# Altium integrated library Linear Technology Charge_Pump.IntLib: 599 symbols (part 15 of 29)
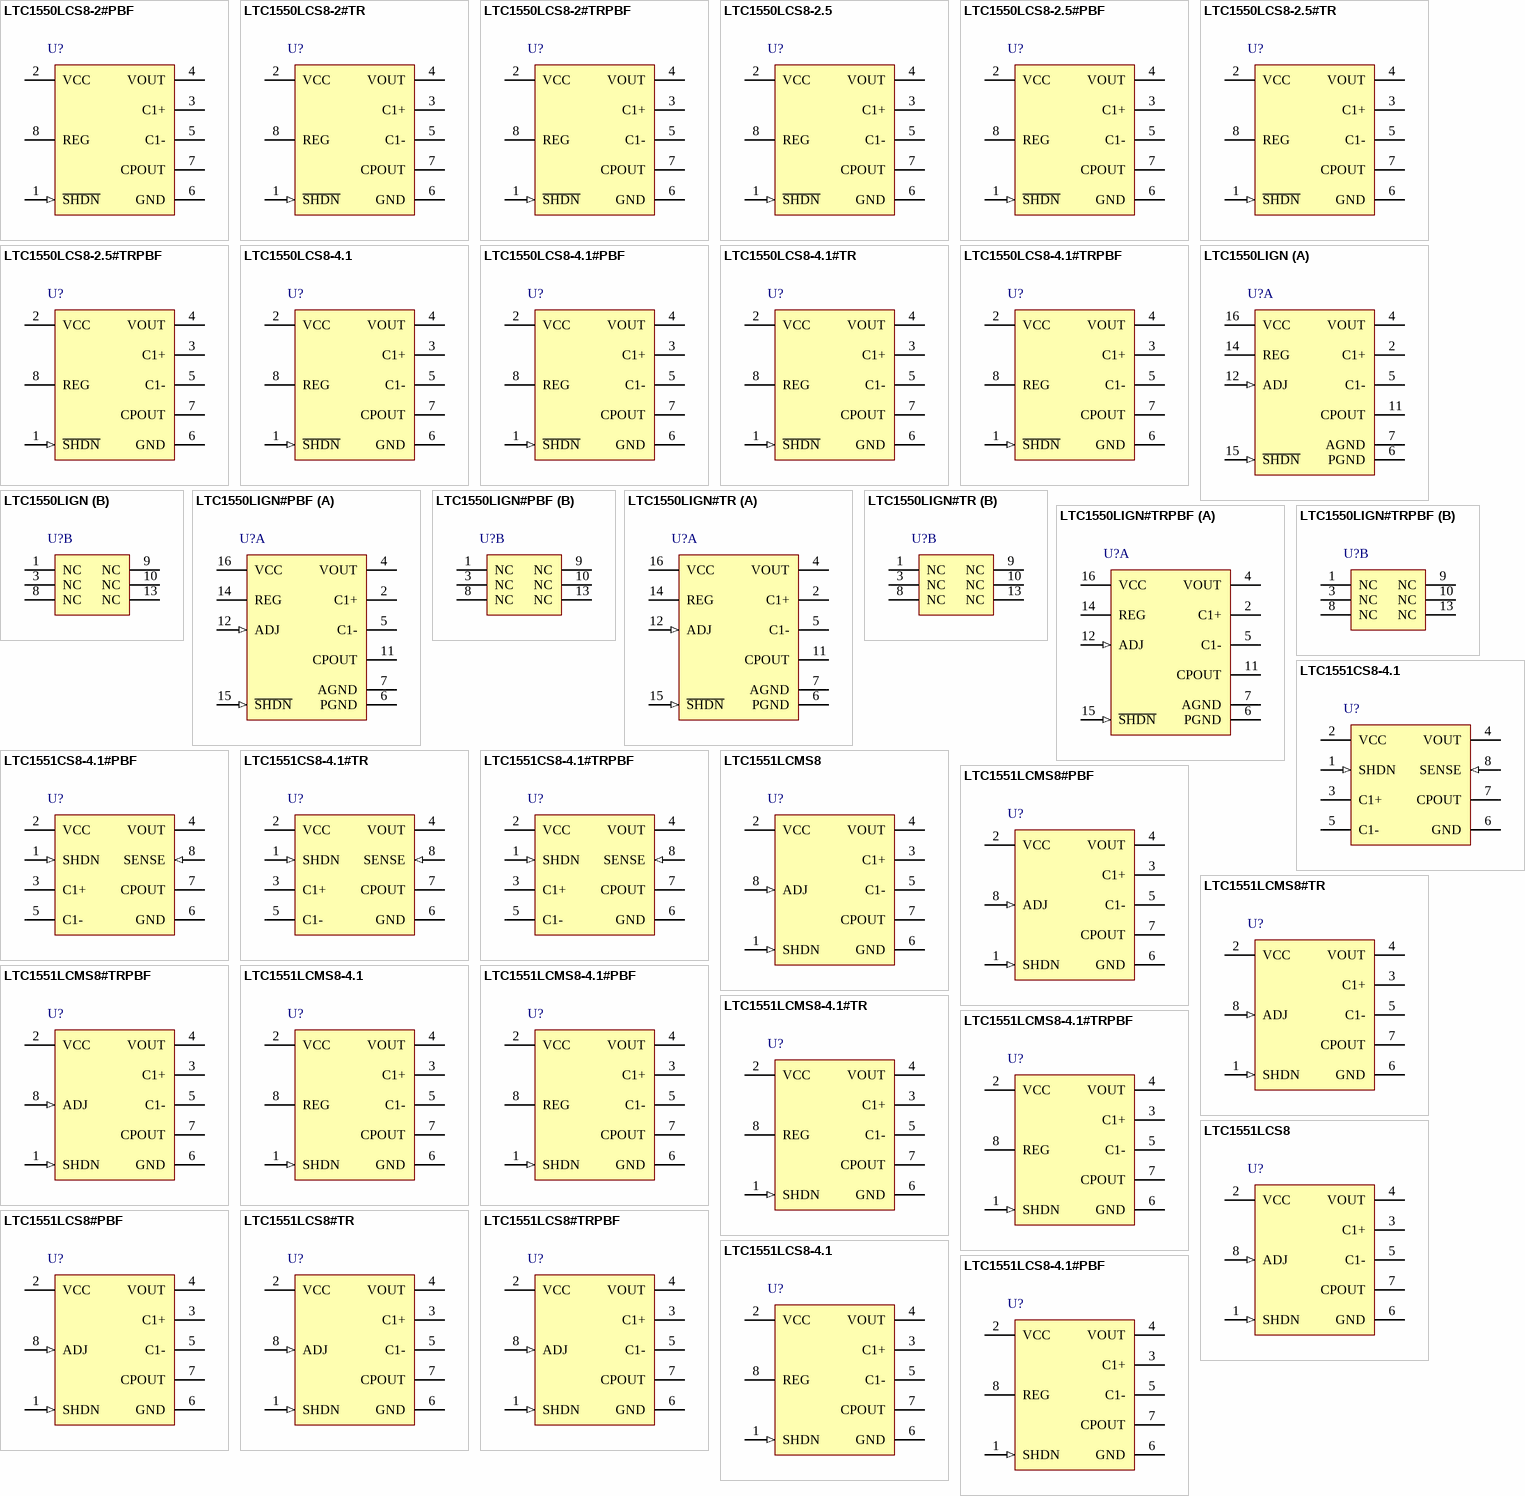
[diagram p30: symbols LTC1550LCS8-2#PBF to LTC1551LCS8-4.1#PBF]

## LTC1551LCMS8-4.1#TRPBF
designator U?
Low Noise, Switched Capacitor Regulated Voltage Inverter, 4.5 to 5.25 V Vin, -4.1 V Vout, 8-pin SOP (MS8-8), 0 to 70 degC, Pb-Free, Tape and Reel; Manufacturer: Linear Technology; PartNumber: LTC1551LCMS8-4.1#TRPBF; Frequency(kHz): 900; Ishutdown(uA): 0.1; Isupply(mA): 3.65; Max Iout(mA): 20; Vin Max(V): 5.25; Vin Min(V): 4.5; Voutput: -4.1V; PackageVersion: Rev. G, 03/2012; PackageReference: MS8-8; PackageDescription: 8-Pin Plastic MSOP, Body 3 x 3 mm, Pitch 0.65 mm; Supplier 1: Digi-Key; Supplier Part Number 1: LTC1551LCMS8-4.1#TRPBF-ND; Packing: Tape and Reel; RoHS: TRUE; Mounting Technology: Surface Mount; ComponentLink1Description: Manufacturer URL; ComponentLink1URL: http://www.linear.com/; ComponentLink2Description: Datasheet; ComponentLink2URL: http://cds.linear.com/docs/en/datasheet/15501lf.pdf; ComponentLink3Description: Package Specification; ComponentLink3URL: http://cds.linear.com/docs/en/packaging/05081660_G_MS8.pdf
footprint LT-MS8-8_N (SOP, 8-Leads, Body 3.1x3.1mm, Pitch 0.65mm, IPC Medium Density)
footprint LT-MS8-8_L (SOP, 8-Leads, Body 3.1x3.1mm, Pitch 0.65mm, IPC High Density)
footprint LT-MS8-8_M (SOP, 8-Leads, Body 3.1x3.1mm, Pitch 0.65mm, IPC Low Density)
pins: 1 SHDN (in) "Shutdown (TTL Compatible). This pin is active low (S\H\D\N\) for the LTC1550L and active high (SHDN) for the LTC1551L. When this pin is at VCC (GND for LTC1551L), the LTC1550L operates normally. When S\H\D\N\ is pulled low (See Datasheet)", 2 VCC (power) "Power Supply. VCC requires an input voltage between 2.7V and 5.25V. Certain combinations of output voltage and output load current may place additional restrictions on the required input voltage. Consult the Electrical (See Datasheet)", 3 C1+ "C1 Positive Input. Connect a 0.1uF capacitor between C1+ and C1-.", 4 VOUT (power) "Negative Voltage Output. This pin must be bypassed with a 4.7uF or larger capacitor to ensure regulator loop stability. LTC recommends at least 10uFto achieve the specified output ripple. The output capacitor should be a (See Datasheet)", 5 C1- "C1 Negative Input. Connect a 0.1uF capacitor from C1+ to C1-.", 6 GND (power) "Ground. Connect to a low impedance ground. A ground plane will help minimize regulation errors.", 7 CPOUT "Negative Charge Pump Output. This pin requires a 0.1uF storage capacitor to ground. In order to achieve ripple on the output voltage of less than 1mV, the ground connection for the CPOUT capacitor must tie directly to the (See Datasheet)", 8 REG (oc) "This is an open-drain output that pulls low when the output voltage is within 5% of the set value. It will sink 4mA to ground with a 5V supply. The external circuitry must provide a pull-up or REG will not swing high. The (See Datasheet)"

## LTC1551LCS8
designator U?
Low Noise, Switched Capacitor Regulated Voltage Inverter, 2.7 to 5.25 V Vin, Adjustable Vout, 8-pin SOIC (S8-8), 0 to 70 degC; Manufacturer: Linear Technology; PartNumber: LTC1551LCS8; Frequency(kHz): 900; Ishutdown(uA): 0.1; Isupply(mA): 3.65; Max Iout(mA): 20; Vin Max(V): 5.25; Vin Min(V): 2.7; Voutput: Adj; PackageVersion: Rev. G, 03/2012; PackageReference: S8-8; PackageDescription: 8-Pin Plastic Small Outline (Narrow .150 Inch), Body 4.9 x 3.9 mm, Pitch 1.27 mm; Supplier 1: Digi-Key; Supplier Part Number 1: LTC1551LCS8-ND; RoHS: FALSE; Mounting Technology: Surface Mount; ComponentLink1Description: Manufacturer URL; ComponentLink1URL: http://www.linear.com/; ComponentLink2Description: Datasheet; ComponentLink2URL: http://cds.linear.com/docs/en/datasheet/15501lf.pdf; ComponentLink3Description: Package Specification; ComponentLink3URL: http://cds.linear.com/docs/en/packaging/05081610_G_SO8.pdf
footprint LT-S8-8_N (SOIC, 8-Leads, Body 5x4mm, Pitch 1.27mm, IPC Medium Density)
footprint LT-S8-8_L (SOIC, 8-Leads, Body 5x4mm, Pitch 1.27mm, IPC High Density)
footprint LT-S8-8_M (SOIC, 8-Leads, Body 5x4mm, Pitch 1.27mm, IPC Low Density)
pins: 1 SHDN (in) "Shutdown (TTL Compatible). This pin is active low (S\H\D\N\) for the LTC1550L and active high (SHDN) for the LTC1551L. When this pin is at VCC (GND for LTC1551L), the LTC1550L operates normally. When S\H\D\N\ is pulled low (See Datasheet)", 2 VCC (power) "Power Supply. VCC requires an input voltage between 2.7V and 5.25V. Certain combinations of output voltage and output load current may place additional restrictions on the required input voltage. Consult the Electrical (See Datasheet)", 3 C1+ "C1 Positive Input. Connect a 0.1uF capacitor between C1+ and C1-.", 4 VOUT (power) "Negative Voltage Output. This pin must be bypassed with a 4.7uF or larger capacitor to ensure regulator loop stability. LTC recommends at least 10uFto achieve the specified output ripple. The output capacitor should be a (See Datasheet)", 5 C1- "C1 Negative Input. Connect a 0.1uF capacitor from C1+ to C1-.", 6 GND (power) "Ground. Connect to a low impedance ground. A ground plane will help minimize regulation errors.", 7 CPOUT "Negative Charge Pump Output. This pin requires a 0.1uF storage capacitor to ground. In order to achieve ripple on the output voltage of less than 1mV, the ground connection for the CPOUT capacitor must tie directly to the (See Datasheet)", 8 ADJ (in) "This is the feedback point for the external resistor divider string. Connect a divider string from GND to VOUT with the divided tap connected to ADJ. Note that the resistor string needs to be connected “upside-down” f(See Datasheet)"

## LTC1551LCS8#PBF
designator U?
Low Noise, Switched Capacitor Regulated Voltage Inverter, 2.7 to 5.25 V Vin, Adjustable Vout, 8-pin SOIC (S8-8), 0 to 70 degC, Pb-Free; Manufacturer: Linear Technology; PartNumber: LTC1551LCS8#PBF; Frequency(kHz): 900; Ishutdown(uA): 0.1; Isupply(mA): 3.65; Max Iout(mA): 20; Vin Max(V): 5.25; Vin Min(V): 2.7; Voutput: Adj; PackageVersion: Rev. G, 03/2012; PackageReference: S8-8; PackageDescription: 8-Pin Plastic Small Outline (Narrow .150 Inch), Body 4.9 x 3.9 mm, Pitch 1.27 mm; Supplier 1: Digi-Key; Supplier Part Number 1: LTC1551LCS8#PBF-ND; RoHS: TRUE; Mounting Technology: Surface Mount; ComponentLink1Description: Manufacturer URL; ComponentLink1URL: http://www.linear.com/; ComponentLink2Description: Datasheet; ComponentLink2URL: http://cds.linear.com/docs/en/datasheet/15501lf.pdf; ComponentLink3Description: Package Specification; ComponentLink3URL: http://cds.linear.com/docs/en/packaging/05081610_G_SO8.pdf
footprint LT-S8-8_N (SOIC, 8-Leads, Body 5x4mm, Pitch 1.27mm, IPC Medium Density)
footprint LT-S8-8_L (SOIC, 8-Leads, Body 5x4mm, Pitch 1.27mm, IPC High Density)
footprint LT-S8-8_M (SOIC, 8-Leads, Body 5x4mm, Pitch 1.27mm, IPC Low Density)
pins: 1 SHDN (in) "Shutdown (TTL Compatible). This pin is active low (S\H\D\N\) for the LTC1550L and active high (SHDN) for the LTC1551L. When this pin is at VCC (GND for LTC1551L), the LTC1550L operates normally. When S\H\D\N\ is pulled low (See Datasheet)", 2 VCC (power) "Power Supply. VCC requires an input voltage between 2.7V and 5.25V. Certain combinations of output voltage and output load current may place additional restrictions on the required input voltage. Consult the Electrical (See Datasheet)", 3 C1+ "C1 Positive Input. Connect a 0.1uF capacitor between C1+ and C1-.", 4 VOUT (power) "Negative Voltage Output. This pin must be bypassed with a 4.7uF or larger capacitor to ensure regulator loop stability. LTC recommends at least 10uFto achieve the specified output ripple. The output capacitor should be a (See Datasheet)", 5 C1- "C1 Negative Input. Connect a 0.1uF capacitor from C1+ to C1-.", 6 GND (power) "Ground. Connect to a low impedance ground. A ground plane will help minimize regulation errors.", 7 CPOUT "Negative Charge Pump Output. This pin requires a 0.1uF storage capacitor to ground. In order to achieve ripple on the output voltage of less than 1mV, the ground connection for the CPOUT capacitor must tie directly to the (See Datasheet)", 8 ADJ (in) "This is the feedback point for the external resistor divider string. Connect a divider string from GND to VOUT with the divided tap connected to ADJ. Note that the resistor string needs to be connected “upside-down” f(See Datasheet)"

## LTC1551LCS8#TR
designator U?
Low Noise, Switched Capacitor Regulated Voltage Inverter, 2.7 to 5.25 V Vin, Adjustable Vout, 8-pin SOIC (S8-8), 0 to 70 degC, Tape and Reel; Manufacturer: Linear Technology; PartNumber: LTC1551LCS8#TR; Frequency(kHz): 900; Ishutdown(uA): 0.1; Isupply(mA): 3.65; Max Iout(mA): 20; Vin Max(V): 5.25; Vin Min(V): 2.7; Voutput: Adj; PackageVersion: Rev. G, 03/2012; PackageReference: S8-8; PackageDescription: 8-Pin Plastic Small Outline (Narrow .150 Inch), Body 4.9 x 3.9 mm, Pitch 1.27 mm; Supplier 1: Digi-Key; Supplier Part Number 1: LTC1551LCS8#TR-ND; Packing: Tape and Reel; RoHS: FALSE; Mounting Technology: Surface Mount; ComponentLink1Description: Manufacturer URL; ComponentLink1URL: http://www.linear.com/; ComponentLink2Description: Datasheet; ComponentLink2URL: http://cds.linear.com/docs/en/datasheet/15501lf.pdf; ComponentLink3Description: Package Specification; ComponentLink3URL: http://cds.linear.com/docs/en/packaging/05081610_G_SO8.pdf
footprint LT-S8-8_N (SOIC, 8-Leads, Body 5x4mm, Pitch 1.27mm, IPC Medium Density)
footprint LT-S8-8_L (SOIC, 8-Leads, Body 5x4mm, Pitch 1.27mm, IPC High Density)
footprint LT-S8-8_M (SOIC, 8-Leads, Body 5x4mm, Pitch 1.27mm, IPC Low Density)
pins: 1 SHDN (in) "Shutdown (TTL Compatible). This pin is active low (S\H\D\N\) for the LTC1550L and active high (SHDN) for the LTC1551L. When this pin is at VCC (GND for LTC1551L), the LTC1550L operates normally. When S\H\D\N\ is pulled low (See Datasheet)", 2 VCC (power) "Power Supply. VCC requires an input voltage between 2.7V and 5.25V. Certain combinations of output voltage and output load current may place additional restrictions on the required input voltage. Consult the Electrical (See Datasheet)", 3 C1+ "C1 Positive Input. Connect a 0.1uF capacitor between C1+ and C1-.", 4 VOUT (power) "Negative Voltage Output. This pin must be bypassed with a 4.7uF or larger capacitor to ensure regulator loop stability. LTC recommends at least 10uFto achieve the specified output ripple. The output capacitor should be a (See Datasheet)", 5 C1- "C1 Negative Input. Connect a 0.1uF capacitor from C1+ to C1-.", 6 GND (power) "Ground. Connect to a low impedance ground. A ground plane will help minimize regulation errors.", 7 CPOUT "Negative Charge Pump Output. This pin requires a 0.1uF storage capacitor to ground. In order to achieve ripple on the output voltage of less than 1mV, the ground connection for the CPOUT capacitor must tie directly to the (See Datasheet)", 8 ADJ (in) "This is the feedback point for the external resistor divider string. Connect a divider string from GND to VOUT with the divided tap connected to ADJ. Note that the resistor string needs to be connected “upside-down” f(See Datasheet)"

## LTC1551LCS8#TRPBF
designator U?
Low Noise, Switched Capacitor Regulated Voltage Inverter, 2.7 to 5.25 V Vin, Adjustable Vout, 8-pin SOIC (S8-8), 0 to 70 degC, Pb-Free, Tape and Reel; Manufacturer: Linear Technology; PartNumber: LTC1551LCS8#TRPBF; Frequency(kHz): 900; Ishutdown(uA): 0.1; Isupply(mA): 3.65; Max Iout(mA): 20; Vin Max(V): 5.25; Vin Min(V): 2.7; Voutput: Adj; PackageVersion: Rev. G, 03/2012; PackageReference: S8-8; PackageDescription: 8-Pin Plastic Small Outline (Narrow .150 Inch), Body 4.9 x 3.9 mm, Pitch 1.27 mm; Supplier 1: Digi-Key; Supplier Part Number 1: LTC1551LCS8#TRPBF-ND; Packing: Tape and Reel; RoHS: TRUE; Mounting Technology: Surface Mount; ComponentLink1Description: Manufacturer URL; ComponentLink1URL: http://www.linear.com/; ComponentLink2Description: Datasheet; ComponentLink2URL: http://cds.linear.com/docs/en/datasheet/15501lf.pdf; ComponentLink3Description: Package Specification; ComponentLink3URL: http://cds.linear.com/docs/en/packaging/05081610_G_SO8.pdf
footprint LT-S8-8_N (SOIC, 8-Leads, Body 5x4mm, Pitch 1.27mm, IPC Medium Density)
footprint LT-S8-8_L (SOIC, 8-Leads, Body 5x4mm, Pitch 1.27mm, IPC High Density)
footprint LT-S8-8_M (SOIC, 8-Leads, Body 5x4mm, Pitch 1.27mm, IPC Low Density)
pins: 1 SHDN (in) "Shutdown (TTL Compatible). This pin is active low (S\H\D\N\) for the LTC1550L and active high (SHDN) for the LTC1551L. When this pin is at VCC (GND for LTC1551L), the LTC1550L operates normally. When S\H\D\N\ is pulled low (See Datasheet)", 2 VCC (power) "Power Supply. VCC requires an input voltage between 2.7V and 5.25V. Certain combinations of output voltage and output load current may place additional restrictions on the required input voltage. Consult the Electrical (See Datasheet)", 3 C1+ "C1 Positive Input. Connect a 0.1uF capacitor between C1+ and C1-.", 4 VOUT (power) "Negative Voltage Output. This pin must be bypassed with a 4.7uF or larger capacitor to ensure regulator loop stability. LTC recommends at least 10uFto achieve the specified output ripple. The output capacitor should be a (See Datasheet)", 5 C1- "C1 Negative Input. Connect a 0.1uF capacitor from C1+ to C1-.", 6 GND (power) "Ground. Connect to a low impedance ground. A ground plane will help minimize regulation errors.", 7 CPOUT "Negative Charge Pump Output. This pin requires a 0.1uF storage capacitor to ground. In order to achieve ripple on the output voltage of less than 1mV, the ground connection for the CPOUT capacitor must tie directly to the (See Datasheet)", 8 ADJ (in) "This is the feedback point for the external resistor divider string. Connect a divider string from GND to VOUT with the divided tap connected to ADJ. Note that the resistor string needs to be connected “upside-down” f(See Datasheet)"

## LTC1551LCS8-4.1
designator U?
Low Noise, Switched Capacitor Regulated Voltage Inverter, 4.5 to 5.25 V Vin, -4.1 V Vout, 8-pin SOIC (S8-8), 0 to 70 degC; Manufacturer: Linear Technology; PartNumber: LTC1551LCS8-4.1; Frequency(kHz): 900; Ishutdown(uA): 0.1; Isupply(mA): 3.65; Max Iout(mA): 20; Vin Max(V): 5.25; Vin Min(V): 4.5; Voutput: -4.1V; PackageVersion: Rev. G, 03/2012; PackageReference: S8-8; PackageDescription: 8-Pin Plastic Small Outline (Narrow .150 Inch), Body 4.9 x 3.9 mm, Pitch 1.27 mm; Supplier 1: Digi-Key; Supplier Part Number 1: LTC1551LCS8-4.1-ND; RoHS: FALSE; Mounting Technology: Surface Mount; ComponentLink1Description: Manufacturer URL; ComponentLink1URL: http://www.linear.com/; ComponentLink2Description: Datasheet; ComponentLink2URL: http://cds.linear.com/docs/en/datasheet/15501lf.pdf; ComponentLink3Description: Package Specification; ComponentLink3URL: http://cds.linear.com/docs/en/packaging/05081610_G_SO8.pdf
footprint LT-S8-8_N (SOIC, 8-Leads, Body 5x4mm, Pitch 1.27mm, IPC Medium Density)
footprint LT-S8-8_L (SOIC, 8-Leads, Body 5x4mm, Pitch 1.27mm, IPC High Density)
footprint LT-S8-8_M (SOIC, 8-Leads, Body 5x4mm, Pitch 1.27mm, IPC Low Density)
pins: 1 SHDN (in) "Shutdown (TTL Compatible). This pin is active low (S\H\D\N\) for the LTC1550L and active high (SHDN) for the LTC1551L. When this pin is at VCC (GND for LTC1551L), the LTC1550L operates normally. When S\H\D\N\ is pulled low (See Datasheet)", 2 VCC (power) "Power Supply. VCC requires an input voltage between 2.7V and 5.25V. Certain combinations of output voltage and output load current may place additional restrictions on the required input voltage. Consult the Electrical (See Datasheet)", 3 C1+ "C1 Positive Input. Connect a 0.1uF capacitor between C1+ and C1-.", 4 VOUT (power) "Negative Voltage Output. This pin must be bypassed with a 4.7uF or larger capacitor to ensure regulator loop stability. LTC recommends at least 10uFto achieve the specified output ripple. The output capacitor should be a (See Datasheet)", 5 C1- "C1 Negative Input. Connect a 0.1uF capacitor from C1+ to C1-.", 6 GND (power) "Ground. Connect to a low impedance ground. A ground plane will help minimize regulation errors.", 7 CPOUT "Negative Charge Pump Output. This pin requires a 0.1uF storage capacitor to ground. In order to achieve ripple on the output voltage of less than 1mV, the ground connection for the CPOUT capacitor must tie directly to the (See Datasheet)", 8 REG (oc) "This is an open-drain output that pulls low when the output voltage is within 5% of the set value. It will sink 4mA to ground with a 5V supply. The external circuitry must provide a pull-up or REG will not swing high. The (See Datasheet)"

## LTC1551LCS8-4.1#PBF
designator U?
Low Noise, Switched Capacitor Regulated Voltage Inverter, 4.5 to 5.25 V Vin, -4.1 V Vout, 8-pin SOIC (S8-8), 0 to 70 degC, Pb-Free; Manufacturer: Linear Technology; PartNumber: LTC1551LCS8-4.1#PBF; Frequency(kHz): 900; Ishutdown(uA): 0.1; Isupply(mA): 3.65; Max Iout(mA): 20; Vin Max(V): 5.25; Vin Min(V): 4.5; Voutput: -4.1V; PackageVersion: Rev. G, 03/2012; PackageReference: S8-8; PackageDescription: 8-Pin Plastic Small Outline (Narrow .150 Inch), Body 4.9 x 3.9 mm, Pitch 1.27 mm; Supplier 1: Digi-Key; Supplier Part Number 1: LTC1551LCS8-4.1#PBF-ND; RoHS: TRUE; Mounting Technology: Surface Mount; ComponentLink1Description: Manufacturer URL; ComponentLink1URL: http://www.linear.com/; ComponentLink2Description: Datasheet; ComponentLink2URL: http://cds.linear.com/docs/en/datasheet/15501lf.pdf; ComponentLink3Description: Package Specification; ComponentLink3URL: http://cds.linear.com/docs/en/packaging/05081610_G_SO8.pdf
footprint LT-S8-8_N (SOIC, 8-Leads, Body 5x4mm, Pitch 1.27mm, IPC Medium Density)
footprint LT-S8-8_L (SOIC, 8-Leads, Body 5x4mm, Pitch 1.27mm, IPC High Density)
footprint LT-S8-8_M (SOIC, 8-Leads, Body 5x4mm, Pitch 1.27mm, IPC Low Density)
pins: 1 SHDN (in) "Shutdown (TTL Compatible). This pin is active low (S\H\D\N\) for the LTC1550L and active high (SHDN) for the LTC1551L. When this pin is at VCC (GND for LTC1551L), the LTC1550L operates normally. When S\H\D\N\ is pulled low (See Datasheet)", 2 VCC (power) "Power Supply. VCC requires an input voltage between 2.7V and 5.25V. Certain combinations of output voltage and output load current may place additional restrictions on the required input voltage. Consult the Electrical (See Datasheet)", 3 C1+ "C1 Positive Input. Connect a 0.1uF capacitor between C1+ and C1-.", 4 VOUT (power) "Negative Voltage Output. This pin must be bypassed with a 4.7uF or larger capacitor to ensure regulator loop stability. LTC recommends at least 10uFto achieve the specified output ripple. The output capacitor should be a (See Datasheet)", 5 C1- "C1 Negative Input. Connect a 0.1uF capacitor from C1+ to C1-.", 6 GND (power) "Ground. Connect to a low impedance ground. A ground plane will help minimize regulation errors.", 7 CPOUT "Negative Charge Pump Output. This pin requires a 0.1uF storage capacitor to ground. In order to achieve ripple on the output voltage of less than 1mV, the ground connection for the CPOUT capacitor must tie directly to the (See Datasheet)", 8 REG (oc) "This is an open-drain output that pulls low when the output voltage is within 5% of the set value. It will sink 4mA to ground with a 5V supply. The external circuitry must provide a pull-up or REG will not swing high. The (See Datasheet)"

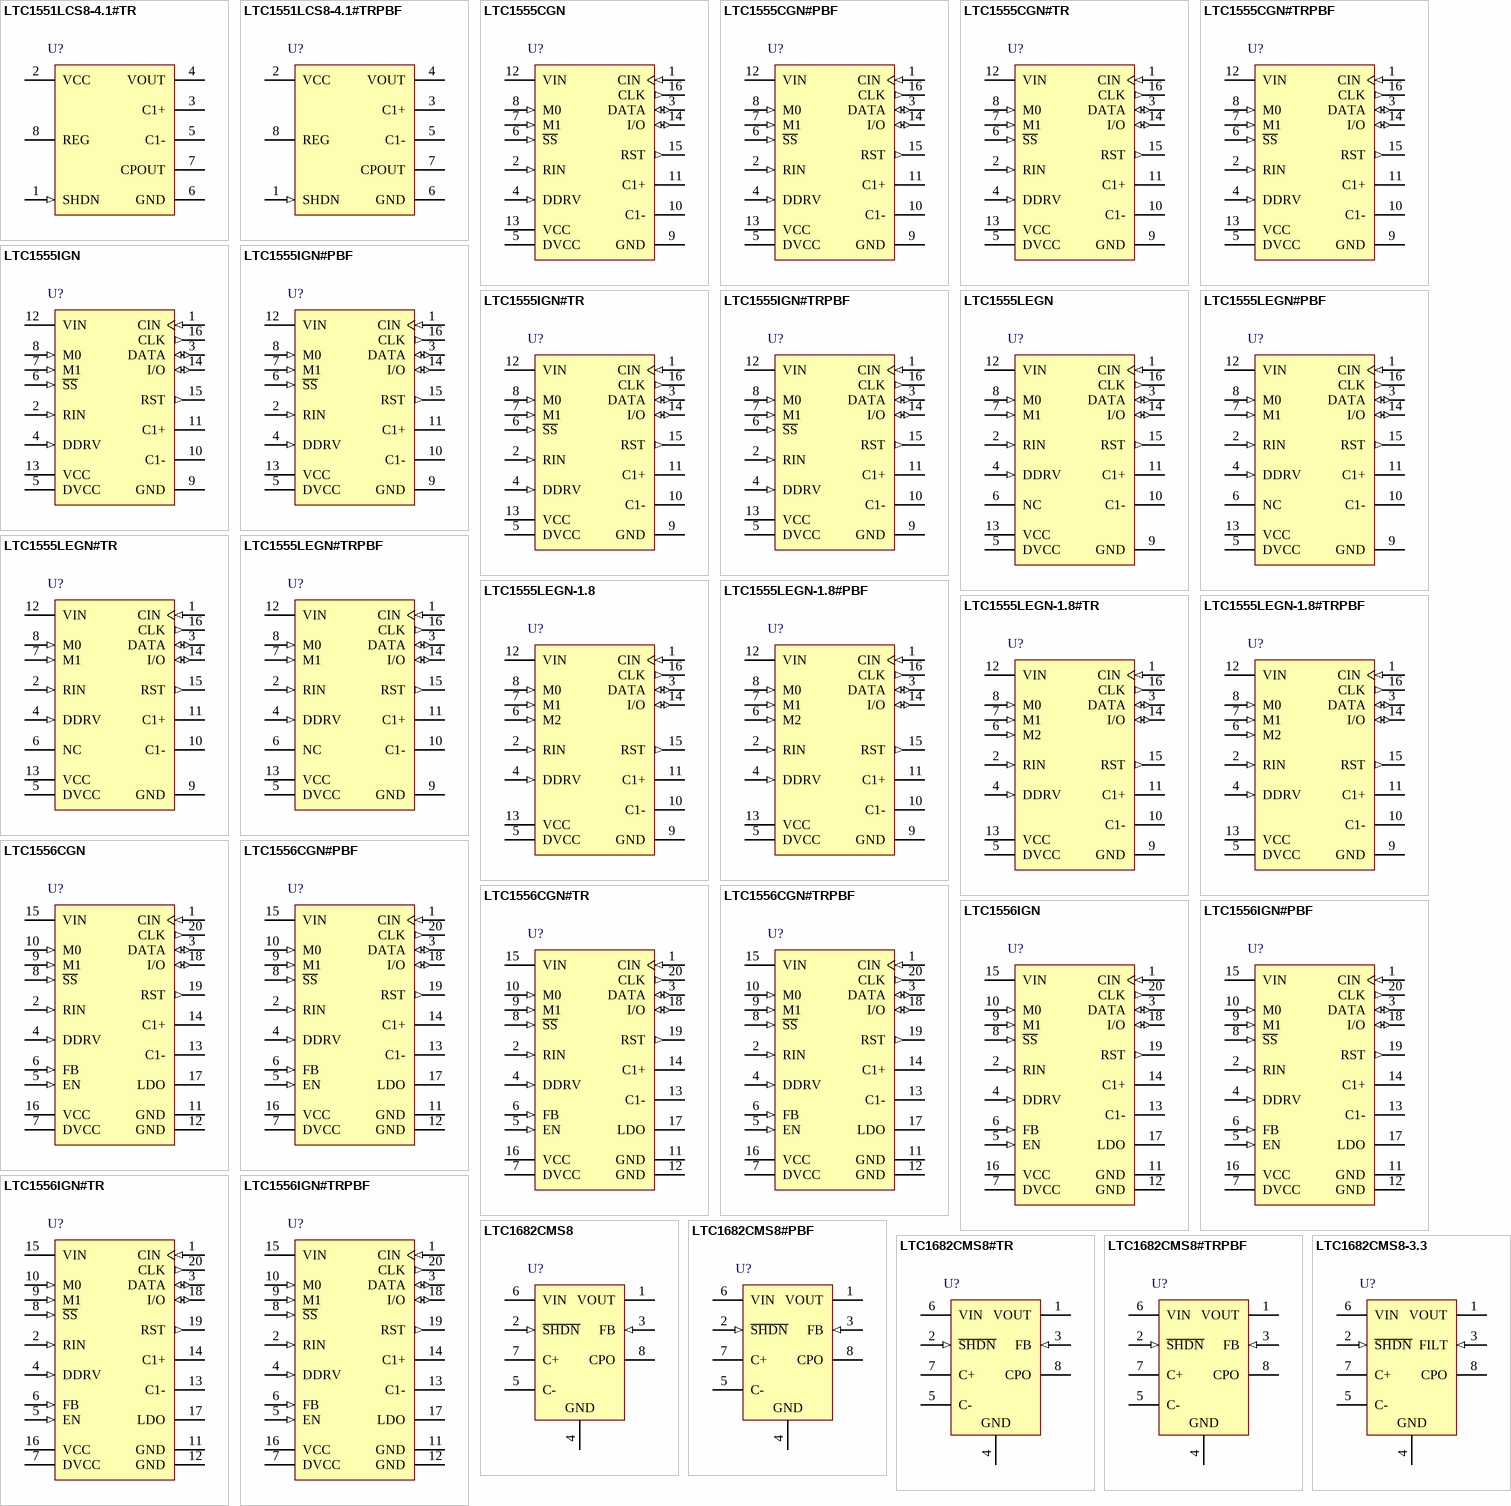
[diagram p9: symbols LTC1551LCS8-4.1#TR to LTC1682CMS8-3.3]

## LTC1551LCS8-4.1#TR
designator U?
Low Noise, Switched Capacitor Regulated Voltage Inverter, 4.5 to 5.25 V Vin, -4.1 V Vout, 8-pin SOIC (S8-8), 0 to 70 degC, Tape and Reel; Manufacturer: Linear Technology; PartNumber: LTC1551LCS8-4.1#TR; Frequency(kHz): 900; Ishutdown(uA): 0.1; Isupply(mA): 3.65; Max Iout(mA): 20; Vin Max(V): 5.25; Vin Min(V): 4.5; Voutput: -4.1V; PackageVersion: Rev. G, 03/2012; PackageReference: S8-8; PackageDescription: 8-Pin Plastic Small Outline (Narrow .150 Inch), Body 4.9 x 3.9 mm, Pitch 1.27 mm; Supplier 1: Digi-Key; Supplier Part Number 1: LTC1551LCS8-4.1TR-ND; Packing: Tape and Reel; RoHS: FALSE; Mounting Technology: Surface Mount; ComponentLink1Description: Manufacturer URL; ComponentLink1URL: http://www.linear.com/; ComponentLink2Description: Datasheet; ComponentLink2URL: http://cds.linear.com/docs/en/datasheet/15501lf.pdf; ComponentLink3Description: Package Specification; ComponentLink3URL: http://cds.linear.com/docs/en/packaging/05081610_G_SO8.pdf
footprint LT-S8-8_N (SOIC, 8-Leads, Body 5x4mm, Pitch 1.27mm, IPC Medium Density)
footprint LT-S8-8_L (SOIC, 8-Leads, Body 5x4mm, Pitch 1.27mm, IPC High Density)
footprint LT-S8-8_M (SOIC, 8-Leads, Body 5x4mm, Pitch 1.27mm, IPC Low Density)
pins: 1 SHDN (in) "Shutdown (TTL Compatible). This pin is active low (S\H\D\N\) for the LTC1550L and active high (SHDN) for the LTC1551L. When this pin is at VCC (GND for LTC1551L), the LTC1550L operates normally. When S\H\D\N\ is pulled low (See Datasheet)", 2 VCC (power) "Power Supply. VCC requires an input voltage between 2.7V and 5.25V. Certain combinations of output voltage and output load current may place additional restrictions on the required input voltage. Consult the Electrical (See Datasheet)", 3 C1+ "C1 Positive Input. Connect a 0.1uF capacitor between C1+ and C1-.", 4 VOUT (power) "Negative Voltage Output. This pin must be bypassed with a 4.7uF or larger capacitor to ensure regulator loop stability. LTC recommends at least 10uFto achieve the specified output ripple. The output capacitor should be a (See Datasheet)", 5 C1- "C1 Negative Input. Connect a 0.1uF capacitor from C1+ to C1-.", 6 GND (power) "Ground. Connect to a low impedance ground. A ground plane will help minimize regulation errors.", 7 CPOUT "Negative Charge Pump Output. This pin requires a 0.1uF storage capacitor to ground. In order to achieve ripple on the output voltage of less than 1mV, the ground connection for the CPOUT capacitor must tie directly to the (See Datasheet)", 8 REG (oc) "This is an open-drain output that pulls low when the output voltage is within 5% of the set value. It will sink 4mA to ground with a 5V supply. The external circuitry must provide a pull-up or REG will not swing high. The (See Datasheet)"

## LTC1551LCS8-4.1#TRPBF
designator U?
Low Noise, Switched Capacitor Regulated Voltage Inverter, 4.5 to 5.25 V Vin, -4.1 V Vout, 8-pin SOIC (S8-8), 0 to 70 degC, Pb-Free, Tape and Reel; Manufacturer: Linear Technology; PartNumber: LTC1551LCS8-4.1#TRPBF; Frequency(kHz): 900; Ishutdown(uA): 0.1; Isupply(mA): 3.65; Max Iout(mA): 20; Vin Max(V): 5.25; Vin Min(V): 4.5; Voutput: -4.1V; PackageVersion: Rev. G, 03/2012; PackageReference: S8-8; PackageDescription: 8-Pin Plastic Small Outline (Narrow .150 Inch), Body 4.9 x 3.9 mm, Pitch 1.27 mm; Supplier 1: Digi-Key; Supplier Part Number 1: LTC1551LCS8-4.1#TRPBF-ND; Packing: Tape and Reel; RoHS: TRUE; Mounting Technology: Surface Mount; ComponentLink1Description: Manufacturer URL; ComponentLink1URL: http://www.linear.com/; ComponentLink2Description: Datasheet; ComponentLink2URL: http://cds.linear.com/docs/en/datasheet/15501lf.pdf; ComponentLink3Description: Package Specification; ComponentLink3URL: http://cds.linear.com/docs/en/packaging/05081610_G_SO8.pdf
footprint LT-S8-8_N (SOIC, 8-Leads, Body 5x4mm, Pitch 1.27mm, IPC Medium Density)
footprint LT-S8-8_L (SOIC, 8-Leads, Body 5x4mm, Pitch 1.27mm, IPC High Density)
footprint LT-S8-8_M (SOIC, 8-Leads, Body 5x4mm, Pitch 1.27mm, IPC Low Density)
pins: 1 SHDN (in) "Shutdown (TTL Compatible). This pin is active low (S\H\D\N\) for the LTC1550L and active high (SHDN) for the LTC1551L. When this pin is at VCC (GND for LTC1551L), the LTC1550L operates normally. When S\H\D\N\ is pulled low (See Datasheet)", 2 VCC (power) "Power Supply. VCC requires an input voltage between 2.7V and 5.25V. Certain combinations of output voltage and output load current may place additional restrictions on the required input voltage. Consult the Electrical (See Datasheet)", 3 C1+ "C1 Positive Input. Connect a 0.1uF capacitor between C1+ and C1-.", 4 VOUT (power) "Negative Voltage Output. This pin must be bypassed with a 4.7uF or larger capacitor to ensure regulator loop stability. LTC recommends at least 10uFto achieve the specified output ripple. The output capacitor should be a (See Datasheet)", 5 C1- "C1 Negative Input. Connect a 0.1uF capacitor from C1+ to C1-.", 6 GND (power) "Ground. Connect to a low impedance ground. A ground plane will help minimize regulation errors.", 7 CPOUT "Negative Charge Pump Output. This pin requires a 0.1uF storage capacitor to ground. In order to achieve ripple on the output voltage of less than 1mV, the ground connection for the CPOUT capacitor must tie directly to the (See Datasheet)", 8 REG (oc) "This is an open-drain output that pulls low when the output voltage is within 5% of the set value. It will sink 4mA to ground with a 5V supply. The external circuitry must provide a pull-up or REG will not swing high. The (See Datasheet)"

## LTC1555CGN
designator U?
SIM Power Supply and Level Translator, 2.7 to 10 V Vin, 5 V Vout, 16-pin SOP (GN-16), 0 to 70 degC; Manufacturer: Linear Technology; PartNumber: LTC1555CGN; Frequency(kHz): 650; Isupply(mA): 0.06; Max Iout(mA): 20; Vin Max(V): 10; Vin Min(V): 2.7; Voutput: 5V; PackageVersion: Rev. B, 03/2012; PackageReference: GN-16; PackageDescription: 16-Pin Plastic SSOP, Body 4.9 x 3.9 mm, Pitch 0.635 mm; Supplier 1: Digi-Key; Supplier Part Number 1: LTC1555CGN-ND; RoHS: FALSE; Mounting Technology: Surface Mount; ComponentLink1Description: Manufacturer URL; ComponentLink1URL: http://www.linear.com/; ComponentLink2Description: Datasheet; ComponentLink2URL: http://cds.linear.com/docs/en/datasheet/15556f.pdf; ComponentLink3Description: Package Specification; ComponentLink3URL: http://cds.linear.com/docs/en/packaging/05081641_B_GN16.pdf
footprint LT-GN-16_N (SOP, 16-Leads, Body 5x4mm, Pitch 0.635mm, IPC Medium Density)
footprint LT-GN-16_L (SOP, 16-Leads, Body 5x4mm, Pitch 0.635mm, IPC High Density)
footprint LT-GN-16_M (SOP, 16-Leads, Body 5x4mm, Pitch 0.635mm, IPC Low Density)
pins: 1 CIN (in) "Clock Input Pin from Controller.", 2 RIN (in) "Reset Input Pin from Controller.", 3 DATA (io) "Controller Side Data Input/Output Pin. Can be used for single pin bidirectional data transfer between the controller and the SIM card as long as the controller data pin is open drain. The controller output must be able to (See Datasheet)", 4 DDRV (in) "Optional Data Input Pin for Sending Data to the SIM card. When not needed, the DDRV pin should be left floating or tied to DVCC (an internal 1mA current source will pull the DDRV pin up to DVCC if left floating).", 5 DVCC (power) "Supply Voltage for Controller Side Digital I/O Pins. May be between 1.8V and 5.5V (typically 3V).", 6 ~{SS} (in) "Soft Start Enable Pin. A logic low will enable the charge pump inrush current limiting feature. A logic high will disable the soft start feature and allow VCC to be ramped as quickly as possible upon start-up and coming out (See Datasheet)", 7 M1 (in) "Mode Control Bit 1 (see Truth Table).", 8 M0 (in) "Mode Control Bit 0 (see Truth Table).This table defines the various operating modes that maybe obtained via the M0 and M1 mode control pins", 9 GND (power) "Ground for Both the SIM and the Controller. Should be connected to the SIM GND contact as well as to the VIN/Controller GND. Proper grounding and supply bypassing is required to meet 10kV ESD specifications.", 10 C1- "Charge Pump Flying Capacitor Negative Input.", 11 C1+ "Charge Pump Flying Capacitor Positive Input.", 12 VIN (power) "Charge Pump Input Voltage Pin. Input voltage range is 2.7V to 10V. Connect a 10uF low ESR input bypass capacitor close to the VIN pin.", 13 VCC (power) "SIM Card VCC Output. This pin should be connected to the SIM VCC contact. The VCC output voltage is determined by the M0 and M1 pins (see Truth Table). VCC is discharged to GND during shutdown (M0, M1 = 0V). A 10uF low ESR (See Datasheet)", 14 I/O (io) "SIM Side I/O Pin. The pin is an open drain output with a nominal pull-up resistance of 10k and should be connected to the SIM I/O contact. The SIM card must sink up to 1mA max when driving the I/O pin low due to the internal (See Datasheet)", 15 RST (out) "Level Shifted Reset Output Pin. Should be connected to the SIM RST contact.", 16 CLK (out) "Level Shifted Clock Output Pin. Should be connected to the SIM CLK contact. Careful trace routing is recommended due to fast rise and fall edge speeds."

## LTC1555CGN#PBF
designator U?
SIM Power Supply and Level Translator, 2.7 to 10 V Vin, 5 V Vout, 16-pin SOP (GN-16), 0 to 70 degC, Pb-Free; Manufacturer: Linear Technology; PartNumber: LTC1555CGN#PBF; Frequency(kHz): 650; Isupply(mA): 0.06; Max Iout(mA): 20; Vin Max(V): 10; Vin Min(V): 2.7; Voutput: 5V; PackageVersion: Rev. B, 03/2012; PackageReference: GN-16; PackageDescription: 16-Pin Plastic SSOP, Body 4.9 x 3.9 mm, Pitch 0.635 mm; Supplier 1: Digi-Key; Supplier Part Number 1: LTC1555CGN#PBF-ND; RoHS: TRUE; Mounting Technology: Surface Mount; ComponentLink1Description: Manufacturer URL; ComponentLink1URL: http://www.linear.com/; ComponentLink2Description: Datasheet; ComponentLink2URL: http://cds.linear.com/docs/en/datasheet/15556f.pdf; ComponentLink3Description: Package Specification; ComponentLink3URL: http://cds.linear.com/docs/en/packaging/05081641_B_GN16.pdf
footprint LT-GN-16_N (SOP, 16-Leads, Body 5x4mm, Pitch 0.635mm, IPC Medium Density)
footprint LT-GN-16_L (SOP, 16-Leads, Body 5x4mm, Pitch 0.635mm, IPC High Density)
footprint LT-GN-16_M (SOP, 16-Leads, Body 5x4mm, Pitch 0.635mm, IPC Low Density)
pins: 1 CIN (in) "Clock Input Pin from Controller.", 2 RIN (in) "Reset Input Pin from Controller.", 3 DATA (io) "Controller Side Data Input/Output Pin. Can be used for single pin bidirectional data transfer between the controller and the SIM card as long as the controller data pin is open drain. The controller output must be able to (See Datasheet)", 4 DDRV (in) "Optional Data Input Pin for Sending Data to the SIM card. When not needed, the DDRV pin should be left floating or tied to DVCC (an internal 1mA current source will pull the DDRV pin up to DVCC if left floating).", 5 DVCC (power) "Supply Voltage for Controller Side Digital I/O Pins. May be between 1.8V and 5.5V (typically 3V).", 6 ~{SS} (in) "Soft Start Enable Pin. A logic low will enable the charge pump inrush current limiting feature. A logic high will disable the soft start feature and allow VCC to be ramped as quickly as possible upon start-up and coming out (See Datasheet)", 7 M1 (in) "Mode Control Bit 1 (see Truth Table).", 8 M0 (in) "Mode Control Bit 0 (see Truth Table).This table defines the various operating modes that maybe obtained via the M0 and M1 mode control pins", 9 GND (power) "Ground for Both the SIM and the Controller. Should be connected to the SIM GND contact as well as to the VIN/Controller GND. Proper grounding and supply bypassing is required to meet 10kV ESD specifications.", 10 C1- "Charge Pump Flying Capacitor Negative Input.", 11 C1+ "Charge Pump Flying Capacitor Positive Input.", 12 VIN (power) "Charge Pump Input Voltage Pin. Input voltage range is 2.7V to 10V. Connect a 10uF low ESR input bypass capacitor close to the VIN pin.", 13 VCC (power) "SIM Card VCC Output. This pin should be connected to the SIM VCC contact. The VCC output voltage is determined by the M0 and M1 pins (see Truth Table). VCC is discharged to GND during shutdown (M0, M1 = 0V). A 10uF low ESR (See Datasheet)", 14 I/O (io) "SIM Side I/O Pin. The pin is an open drain output with a nominal pull-up resistance of 10k and should be connected to the SIM I/O contact. The SIM card must sink up to 1mA max when driving the I/O pin low due to the internal (See Datasheet)", 15 RST (out) "Level Shifted Reset Output Pin. Should be connected to the SIM RST contact.", 16 CLK (out) "Level Shifted Clock Output Pin. Should be connected to the SIM CLK contact. Careful trace routing is recommended due to fast rise and fall edge speeds."

## LTC1555CGN#TR
designator U?
SIM Power Supply and Level Translator, 2.7 to 10 V Vin, 5 V Vout, 16-pin SOP (GN-16), 0 to 70 degC, Tape and Reel; Manufacturer: Linear Technology; PartNumber: LTC1555CGN#TR; Frequency(kHz): 650; Isupply(mA): 0.06; Max Iout(mA): 20; Vin Max(V): 10; Vin Min(V): 2.7; Voutput: 5V; PackageVersion: Rev. B, 03/2012; PackageReference: GN-16; PackageDescription: 16-Pin Plastic SSOP, Body 4.9 x 3.9 mm, Pitch 0.635 mm; Supplier 1: Digi-Key; Supplier Part Number 1: LTC1555CGN#TR-ND; Packing: Tape and Reel; RoHS: FALSE; Mounting Technology: Surface Mount; ComponentLink1Description: Manufacturer URL; ComponentLink1URL: http://www.linear.com/; ComponentLink2Description: Datasheet; ComponentLink2URL: http://cds.linear.com/docs/en/datasheet/15556f.pdf; ComponentLink3Description: Package Specification; ComponentLink3URL: http://cds.linear.com/docs/en/packaging/05081641_B_GN16.pdf
footprint LT-GN-16_N (SOP, 16-Leads, Body 5x4mm, Pitch 0.635mm, IPC Medium Density)
footprint LT-GN-16_L (SOP, 16-Leads, Body 5x4mm, Pitch 0.635mm, IPC High Density)
footprint LT-GN-16_M (SOP, 16-Leads, Body 5x4mm, Pitch 0.635mm, IPC Low Density)
pins: 1 CIN (in) "Clock Input Pin from Controller.", 2 RIN (in) "Reset Input Pin from Controller.", 3 DATA (io) "Controller Side Data Input/Output Pin. Can be used for single pin bidirectional data transfer between the controller and the SIM card as long as the controller data pin is open drain. The controller output must be able to (See Datasheet)", 4 DDRV (in) "Optional Data Input Pin for Sending Data to the SIM card. When not needed, the DDRV pin should be left floating or tied to DVCC (an internal 1mA current source will pull the DDRV pin up to DVCC if left floating).", 5 DVCC (power) "Supply Voltage for Controller Side Digital I/O Pins. May be between 1.8V and 5.5V (typically 3V).", 6 ~{SS} (in) "Soft Start Enable Pin. A logic low will enable the charge pump inrush current limiting feature. A logic high will disable the soft start feature and allow VCC to be ramped as quickly as possible upon start-up and coming out (See Datasheet)", 7 M1 (in) "Mode Control Bit 1 (see Truth Table).", 8 M0 (in) "Mode Control Bit 0 (see Truth Table).This table defines the various operating modes that maybe obtained via the M0 and M1 mode control pins", 9 GND (power) "Ground for Both the SIM and the Controller. Should be connected to the SIM GND contact as well as to the VIN/Controller GND. Proper grounding and supply bypassing is required to meet 10kV ESD specifications.", 10 C1- "Charge Pump Flying Capacitor Negative Input.", 11 C1+ "Charge Pump Flying Capacitor Positive Input.", 12 VIN (power) "Charge Pump Input Voltage Pin. Input voltage range is 2.7V to 10V. Connect a 10uF low ESR input bypass capacitor close to the VIN pin.", 13 VCC (power) "SIM Card VCC Output. This pin should be connected to the SIM VCC contact. The VCC output voltage is determined by the M0 and M1 pins (see Truth Table). VCC is discharged to GND during shutdown (M0, M1 = 0V). A 10uF low ESR (See Datasheet)", 14 I/O (io) "SIM Side I/O Pin. The pin is an open drain output with a nominal pull-up resistance of 10k and should be connected to the SIM I/O contact. The SIM card must sink up to 1mA max when driving the I/O pin low due to the internal (See Datasheet)", 15 RST (out) "Level Shifted Reset Output Pin. Should be connected to the SIM RST contact.", 16 CLK (out) "Level Shifted Clock Output Pin. Should be connected to the SIM CLK contact. Careful trace routing is recommended due to fast rise and fall edge speeds."

## LTC1555CGN#TRPBF
designator U?
SIM Power Supply and Level Translator, 2.7 to 10 V Vin, 5 V Vout, 16-pin SOP (GN-16), 0 to 70 degC, Pb-Free, Tape and Reel; Manufacturer: Linear Technology; PartNumber: LTC1555CGN#TRPBF; Frequency(kHz): 650; Isupply(mA): 0.06; Max Iout(mA): 20; Vin Max(V): 10; Vin Min(V): 2.7; Voutput: 5V; PackageVersion: Rev. B, 03/2012; PackageReference: GN-16; PackageDescription: 16-Pin Plastic SSOP, Body 4.9 x 3.9 mm, Pitch 0.635 mm; Supplier 1: Digi-Key; Supplier Part Number 1: LTC1555CGN#TRPBF-ND; Packing: Tape and Reel; RoHS: TRUE; Mounting Technology: Surface Mount; ComponentLink1Description: Manufacturer URL; ComponentLink1URL: http://www.linear.com/; ComponentLink2Description: Datasheet; ComponentLink2URL: http://cds.linear.com/docs/en/datasheet/15556f.pdf; ComponentLink3Description: Package Specification; ComponentLink3URL: http://cds.linear.com/docs/en/packaging/05081641_B_GN16.pdf
footprint LT-GN-16_N (SOP, 16-Leads, Body 5x4mm, Pitch 0.635mm, IPC Medium Density)
footprint LT-GN-16_L (SOP, 16-Leads, Body 5x4mm, Pitch 0.635mm, IPC High Density)
footprint LT-GN-16_M (SOP, 16-Leads, Body 5x4mm, Pitch 0.635mm, IPC Low Density)
pins: 1 CIN (in) "Clock Input Pin from Controller.", 2 RIN (in) "Reset Input Pin from Controller.", 3 DATA (io) "Controller Side Data Input/Output Pin. Can be used for single pin bidirectional data transfer between the controller and the SIM card as long as the controller data pin is open drain. The controller output must be able to (See Datasheet)", 4 DDRV (in) "Optional Data Input Pin for Sending Data to the SIM card. When not needed, the DDRV pin should be left floating or tied to DVCC (an internal 1mA current source will pull the DDRV pin up to DVCC if left floating).", 5 DVCC (power) "Supply Voltage for Controller Side Digital I/O Pins. May be between 1.8V and 5.5V (typically 3V).", 6 ~{SS} (in) "Soft Start Enable Pin. A logic low will enable the charge pump inrush current limiting feature. A logic high will disable the soft start feature and allow VCC to be ramped as quickly as possible upon start-up and coming out (See Datasheet)", 7 M1 (in) "Mode Control Bit 1 (see Truth Table).", 8 M0 (in) "Mode Control Bit 0 (see Truth Table).This table defines the various operating modes that maybe obtained via the M0 and M1 mode control pins", 9 GND (power) "Ground for Both the SIM and the Controller. Should be connected to the SIM GND contact as well as to the VIN/Controller GND. Proper grounding and supply bypassing is required to meet 10kV ESD specifications.", 10 C1- "Charge Pump Flying Capacitor Negative Input.", 11 C1+ "Charge Pump Flying Capacitor Positive Input.", 12 VIN (power) "Charge Pump Input Voltage Pin. Input voltage range is 2.7V to 10V. Connect a 10uF low ESR input bypass capacitor close to the VIN pin.", 13 VCC (power) "SIM Card VCC Output. This pin should be connected to the SIM VCC contact. The VCC output voltage is determined by the M0 and M1 pins (see Truth Table). VCC is discharged to GND during shutdown (M0, M1 = 0V). A 10uF low ESR (See Datasheet)", 14 I/O (io) "SIM Side I/O Pin. The pin is an open drain output with a nominal pull-up resistance of 10k and should be connected to the SIM I/O contact. The SIM card must sink up to 1mA max when driving the I/O pin low due to the internal (See Datasheet)", 15 RST (out) "Level Shifted Reset Output Pin. Should be connected to the SIM RST contact.", 16 CLK (out) "Level Shifted Clock Output Pin. Should be connected to the SIM CLK contact. Careful trace routing is recommended due to fast rise and fall edge speeds."

## LTC1555IGN
designator U?
SIM Power Supply and Level Translator, 2.7 to 10 V Vin, 5 V Vout, 16-pin SOP (GN-16), -40 to 85 degC; Manufacturer: Linear Technology; PartNumber: LTC1555IGN; Frequency(kHz): 650; Isupply(mA): 0.06; Max Iout(mA): 20; Vin Max(V): 10; Vin Min(V): 2.7; Voutput: 5V; PackageVersion: Rev. B, 03/2012; PackageReference: GN-16; PackageDescription: 16-Pin Plastic SSOP, Body 4.9 x 3.9 mm, Pitch 0.635 mm; Supplier 1: Digi-Key; Supplier Part Number 1: LTC1555IGN-ND; RoHS: FALSE; Mounting Technology: Surface Mount; ComponentLink1Description: Manufacturer URL; ComponentLink1URL: http://www.linear.com/; ComponentLink2Description: Datasheet; ComponentLink2URL: http://cds.linear.com/docs/en/datasheet/15556f.pdf; ComponentLink3Description: Package Specification; ComponentLink3URL: http://cds.linear.com/docs/en/packaging/05081641_B_GN16.pdf
footprint LT-GN-16_N (SOP, 16-Leads, Body 5x4mm, Pitch 0.635mm, IPC Medium Density)
footprint LT-GN-16_L (SOP, 16-Leads, Body 5x4mm, Pitch 0.635mm, IPC High Density)
footprint LT-GN-16_M (SOP, 16-Leads, Body 5x4mm, Pitch 0.635mm, IPC Low Density)
pins: 1 CIN (in) "Clock Input Pin from Controller.", 2 RIN (in) "Reset Input Pin from Controller.", 3 DATA (io) "Controller Side Data Input/Output Pin. Can be used for single pin bidirectional data transfer between the controller and the SIM card as long as the controller data pin is open drain. The controller output must be able to (See Datasheet)", 4 DDRV (in) "Optional Data Input Pin for Sending Data to the SIM card. When not needed, the DDRV pin should be left floating or tied to DVCC (an internal 1mA current source will pull the DDRV pin up to DVCC if left floating).", 5 DVCC (power) "Supply Voltage for Controller Side Digital I/O Pins. May be between 1.8V and 5.5V (typically 3V).", 6 ~{SS} (in) "Soft Start Enable Pin. A logic low will enable the charge pump inrush current limiting feature. A logic high will disable the soft start feature and allow VCC to be ramped as quickly as possible upon start-up and coming out (See Datasheet)", 7 M1 (in) "Mode Control Bit 1 (see Truth Table).", 8 M0 (in) "Mode Control Bit 0 (see Truth Table).This table defines the various operating modes that maybe obtained via the M0 and M1 mode control pins", 9 GND (power) "Ground for Both the SIM and the Controller. Should be connected to the SIM GND contact as well as to the VIN/Controller GND. Proper grounding and supply bypassing is required to meet 10kV ESD specifications.", 10 C1- "Charge Pump Flying Capacitor Negative Input.", 11 C1+ "Charge Pump Flying Capacitor Positive Input.", 12 VIN (power) "Charge Pump Input Voltage Pin. Input voltage range is 2.7V to 10V. Connect a 10uF low ESR input bypass capacitor close to the VIN pin.", 13 VCC (power) "SIM Card VCC Output. This pin should be connected to the SIM VCC contact. The VCC output voltage is determined by the M0 and M1 pins (see Truth Table). VCC is discharged to GND during shutdown (M0, M1 = 0V). A 10uF low ESR (See Datasheet)", 14 I/O (io) "SIM Side I/O Pin. The pin is an open drain output with a nominal pull-up resistance of 10k and should be connected to the SIM I/O contact. The SIM card must sink up to 1mA max when driving the I/O pin low due to the internal (See Datasheet)", 15 RST (out) "Level Shifted Reset Output Pin. Should be connected to the SIM RST contact.", 16 CLK (out) "Level Shifted Clock Output Pin. Should be connected to the SIM CLK contact. Careful trace routing is recommended due to fast rise and fall edge speeds."

## LTC1555IGN#PBF
designator U?
SIM Power Supply and Level Translator, 2.7 to 10 V Vin, 5 V Vout, 16-pin SOP (GN-16), -40 to 85 degC, Pb-Free; Manufacturer: Linear Technology; PartNumber: LTC1555IGN#PBF; Frequency(kHz): 650; Isupply(mA): 0.06; Max Iout(mA): 20; Vin Max(V): 10; Vin Min(V): 2.7; Voutput: 5V; PackageVersion: Rev. B, 03/2012; PackageReference: GN-16; PackageDescription: 16-Pin Plastic SSOP, Body 4.9 x 3.9 mm, Pitch 0.635 mm; Supplier 1: Digi-Key; Supplier Part Number 1: LTC1555IGN#PBF-ND; RoHS: TRUE; Mounting Technology: Surface Mount; ComponentLink1Description: Manufacturer URL; ComponentLink1URL: http://www.linear.com/; ComponentLink2Description: Datasheet; ComponentLink2URL: http://cds.linear.com/docs/en/datasheet/15556f.pdf; ComponentLink3Description: Package Specification; ComponentLink3URL: http://cds.linear.com/docs/en/packaging/05081641_B_GN16.pdf
footprint LT-GN-16_N (SOP, 16-Leads, Body 5x4mm, Pitch 0.635mm, IPC Medium Density)
footprint LT-GN-16_L (SOP, 16-Leads, Body 5x4mm, Pitch 0.635mm, IPC High Density)
footprint LT-GN-16_M (SOP, 16-Leads, Body 5x4mm, Pitch 0.635mm, IPC Low Density)
pins: 1 CIN (in) "Clock Input Pin from Controller.", 2 RIN (in) "Reset Input Pin from Controller.", 3 DATA (io) "Controller Side Data Input/Output Pin. Can be used for single pin bidirectional data transfer between the controller and the SIM card as long as the controller data pin is open drain. The controller output must be able to (See Datasheet)", 4 DDRV (in) "Optional Data Input Pin for Sending Data to the SIM card. When not needed, the DDRV pin should be left floating or tied to DVCC (an internal 1mA current source will pull the DDRV pin up to DVCC if left floating).", 5 DVCC (power) "Supply Voltage for Controller Side Digital I/O Pins. May be between 1.8V and 5.5V (typically 3V).", 6 ~{SS} (in) "Soft Start Enable Pin. A logic low will enable the charge pump inrush current limiting feature. A logic high will disable the soft start feature and allow VCC to be ramped as quickly as possible upon start-up and coming out (See Datasheet)", 7 M1 (in) "Mode Control Bit 1 (see Truth Table).", 8 M0 (in) "Mode Control Bit 0 (see Truth Table).This table defines the various operating modes that maybe obtained via the M0 and M1 mode control pins", 9 GND (power) "Ground for Both the SIM and the Controller. Should be connected to the SIM GND contact as well as to the VIN/Controller GND. Proper grounding and supply bypassing is required to meet 10kV ESD specifications.", 10 C1- "Charge Pump Flying Capacitor Negative Input.", 11 C1+ "Charge Pump Flying Capacitor Positive Input.", 12 VIN (power) "Charge Pump Input Voltage Pin. Input voltage range is 2.7V to 10V. Connect a 10uF low ESR input bypass capacitor close to the VIN pin.", 13 VCC (power) "SIM Card VCC Output. This pin should be connected to the SIM VCC contact. The VCC output voltage is determined by the M0 and M1 pins (see Truth Table). VCC is discharged to GND during shutdown (M0, M1 = 0V). A 10uF low ESR (See Datasheet)", 14 I/O (io) "SIM Side I/O Pin. The pin is an open drain output with a nominal pull-up resistance of 10k and should be connected to the SIM I/O contact. The SIM card must sink up to 1mA max when driving the I/O pin low due to the internal (See Datasheet)", 15 RST (out) "Level Shifted Reset Output Pin. Should be connected to the SIM RST contact.", 16 CLK (out) "Level Shifted Clock Output Pin. Should be connected to the SIM CLK contact. Careful trace routing is recommended due to fast rise and fall edge speeds."

## LTC1555IGN#TR
designator U?
SIM Power Supply and Level Translator, 2.7 to 10 V Vin, 5 V Vout, 16-pin SOP (GN-16), -40 to 85 degC, Tape and Reel; Manufacturer: Linear Technology; PartNumber: LTC1555IGN#TR; Frequency(kHz): 650; Isupply(mA): 0.06; Max Iout(mA): 20; Vin Max(V): 10; Vin Min(V): 2.7; Voutput: 5V; PackageVersion: Rev. B, 03/2012; PackageReference: GN-16; PackageDescription: 16-Pin Plastic SSOP, Body 4.9 x 3.9 mm, Pitch 0.635 mm; Supplier 1: Digi-Key; Supplier Part Number 1: LTC1555IGN#TR-ND; Packing: Tape and Reel; RoHS: FALSE; Mounting Technology: Surface Mount; ComponentLink1Description: Manufacturer URL; ComponentLink1URL: http://www.linear.com/; ComponentLink2Description: Datasheet; ComponentLink2URL: http://cds.linear.com/docs/en/datasheet/15556f.pdf; ComponentLink3Description: Package Specification; ComponentLink3URL: http://cds.linear.com/docs/en/packaging/05081641_B_GN16.pdf
footprint LT-GN-16_N (SOP, 16-Leads, Body 5x4mm, Pitch 0.635mm, IPC Medium Density)
footprint LT-GN-16_L (SOP, 16-Leads, Body 5x4mm, Pitch 0.635mm, IPC High Density)
footprint LT-GN-16_M (SOP, 16-Leads, Body 5x4mm, Pitch 0.635mm, IPC Low Density)
pins: 1 CIN (in) "Clock Input Pin from Controller.", 2 RIN (in) "Reset Input Pin from Controller.", 3 DATA (io) "Controller Side Data Input/Output Pin. Can be used for single pin bidirectional data transfer between the controller and the SIM card as long as the controller data pin is open drain. The controller output must be able to (See Datasheet)", 4 DDRV (in) "Optional Data Input Pin for Sending Data to the SIM card. When not needed, the DDRV pin should be left floating or tied to DVCC (an internal 1mA current source will pull the DDRV pin up to DVCC if left floating).", 5 DVCC (power) "Supply Voltage for Controller Side Digital I/O Pins. May be between 1.8V and 5.5V (typically 3V).", 6 ~{SS} (in) "Soft Start Enable Pin. A logic low will enable the charge pump inrush current limiting feature. A logic high will disable the soft start feature and allow VCC to be ramped as quickly as possible upon start-up and coming out (See Datasheet)", 7 M1 (in) "Mode Control Bit 1 (see Truth Table).", 8 M0 (in) "Mode Control Bit 0 (see Truth Table).This table defines the various operating modes that maybe obtained via the M0 and M1 mode control pins", 9 GND (power) "Ground for Both the SIM and the Controller. Should be connected to the SIM GND contact as well as to the VIN/Controller GND. Proper grounding and supply bypassing is required to meet 10kV ESD specifications.", 10 C1- "Charge Pump Flying Capacitor Negative Input.", 11 C1+ "Charge Pump Flying Capacitor Positive Input.", 12 VIN (power) "Charge Pump Input Voltage Pin. Input voltage range is 2.7V to 10V. Connect a 10uF low ESR input bypass capacitor close to the VIN pin.", 13 VCC (power) "SIM Card VCC Output. This pin should be connected to the SIM VCC contact. The VCC output voltage is determined by the M0 and M1 pins (see Truth Table). VCC is discharged to GND during shutdown (M0, M1 = 0V). A 10uF low ESR (See Datasheet)", 14 I/O (io) "SIM Side I/O Pin. The pin is an open drain output with a nominal pull-up resistance of 10k and should be connected to the SIM I/O contact. The SIM card must sink up to 1mA max when driving the I/O pin low due to the internal (See Datasheet)", 15 RST (out) "Level Shifted Reset Output Pin. Should be connected to the SIM RST contact.", 16 CLK (out) "Level Shifted Clock Output Pin. Should be connected to the SIM CLK contact. Careful trace routing is recommended due to fast rise and fall edge speeds."